# Altium footprint library PCB - LEADED - MSOP - MAXIM UMAX-10L U10-2.PcbLib: 1 footprints
Each footprint in its own frame and in the unit in brackets; x right, y up, seen from the top. Pads: shape width x height; smd on the part's side, far side on the other; paste and mask are expansions set on the pad; w line width, h text height; cw(c..) or ccw(c..) is an arc to the next point about the centre after c.
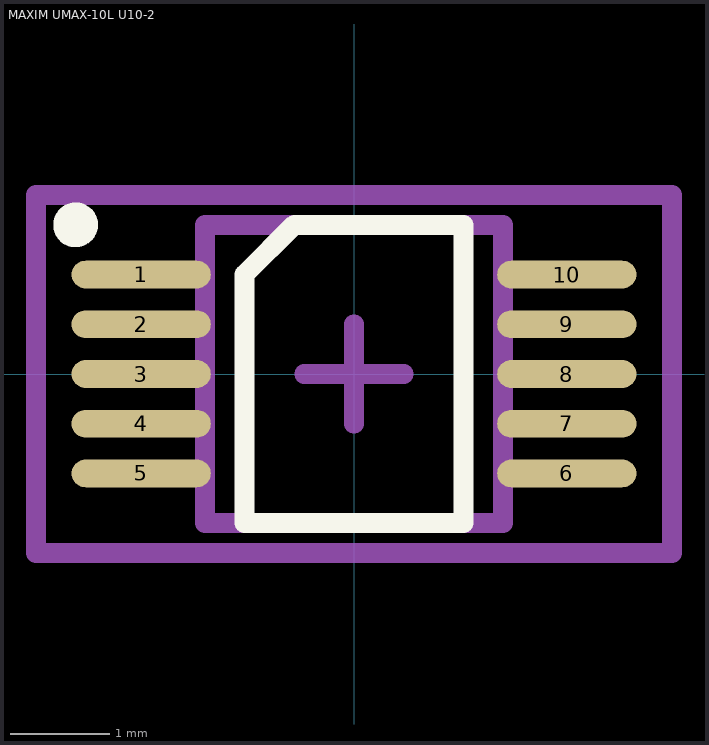
[diagram p0: the footprint, top view; thin cyan lines are the x and y axes]

## MAXIM UMAX-10L U10-2 [mm] "uMAX/uSOP 10L"
height 1.1
pads (10):
  oval 1.4x0.28 smd: 1(-2.14,1) 2(-2.14,0.5) 3(-2.14,0) 4(-2.14,-0.5) 5(-2.14,-1) 6(2.14,-1) 7(2.14,-0.5) 8(2.14,0) 9(2.14,0.5) 10(2.14,1)
Top Overlay:
  circle w0.25: c-2.8,1.5 r0.1
  lines w0.2: -1.1,-1.5 -1.1,1 -0.6,1.5 1.1,1.5 1.1,-1.5 -1.1,-1.5
Top Component Center:
  lines w0.2: -0.5,0 0.5,0 ; 0,-0.5 0,0.5
Top Component Outline:
  lines w0.2: -1.5,-1.5 1.5,-1.5 1.5,1.5 -1.5,1.5 -1.5,-1.5
Top Courtyard (Mech15):
  lines w0.2: -3.2,-1.8 -3.2,1.8 3.2,1.8 3.2,-1.8 -3.2,-1.8
3D body "Maxim - uMAX-10L.step": height 1.16, standoff 0, extent -2.544,-1.5 2.544,1.5